# Altium footprint library 开关按键.PcbLib: 1 footprints
Each footprint in its own frame and in the unit in brackets; x right, y up, seen from the top. Pads: shape width x height; smd on the part's side, far side on the other; paste and mask are expansions set on the pad; w line width, h text height; cw(c..) or ccw(c..) is an arc to the next point about the centre after c.
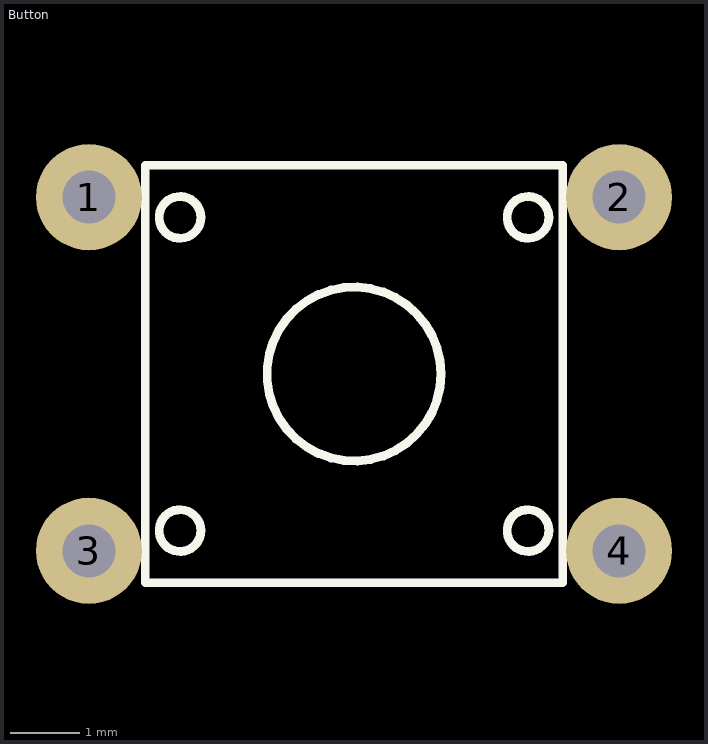
[diagram p0: the footprint, top view; thin cyan lines are the x and y axes]

## Button [mil] "Button with 4 pins"
pads (4):
  round 60 hole 30: 1(-30150,-32825) 2(-29850,-32825) 3(-30150,-33025) 4(-29850,-33025)
Top Overlay:
  circle w5: c-30000,-32925 r49.21
  circle w5: c-29901.57,-32836.42 r11.81
  circle w5: c-30098.43,-32836.42 r11.81
  circle w5: c-30098.43,-33013.58 r11.81
  circle w5: c-29901.57,-33013.58 r11.81
  lines w5: -30118.11,-33043.11 -29881.89,-33043.11 -29881.89,-32806.89 -30118.11,-32806.89 -30118.11,-33043.11